# Altium footprint library 排阻.PcbLib: 13 footprints
Each footprint in its own frame and in the unit in brackets; x right, y up, seen from the top. Pads: shape width x height; smd on the part's side, far side on the other; paste and mask are expansions set on the pad; w line width, h text height; cw(c..) or ccw(c..) is an arc to the next point about the centre after c.
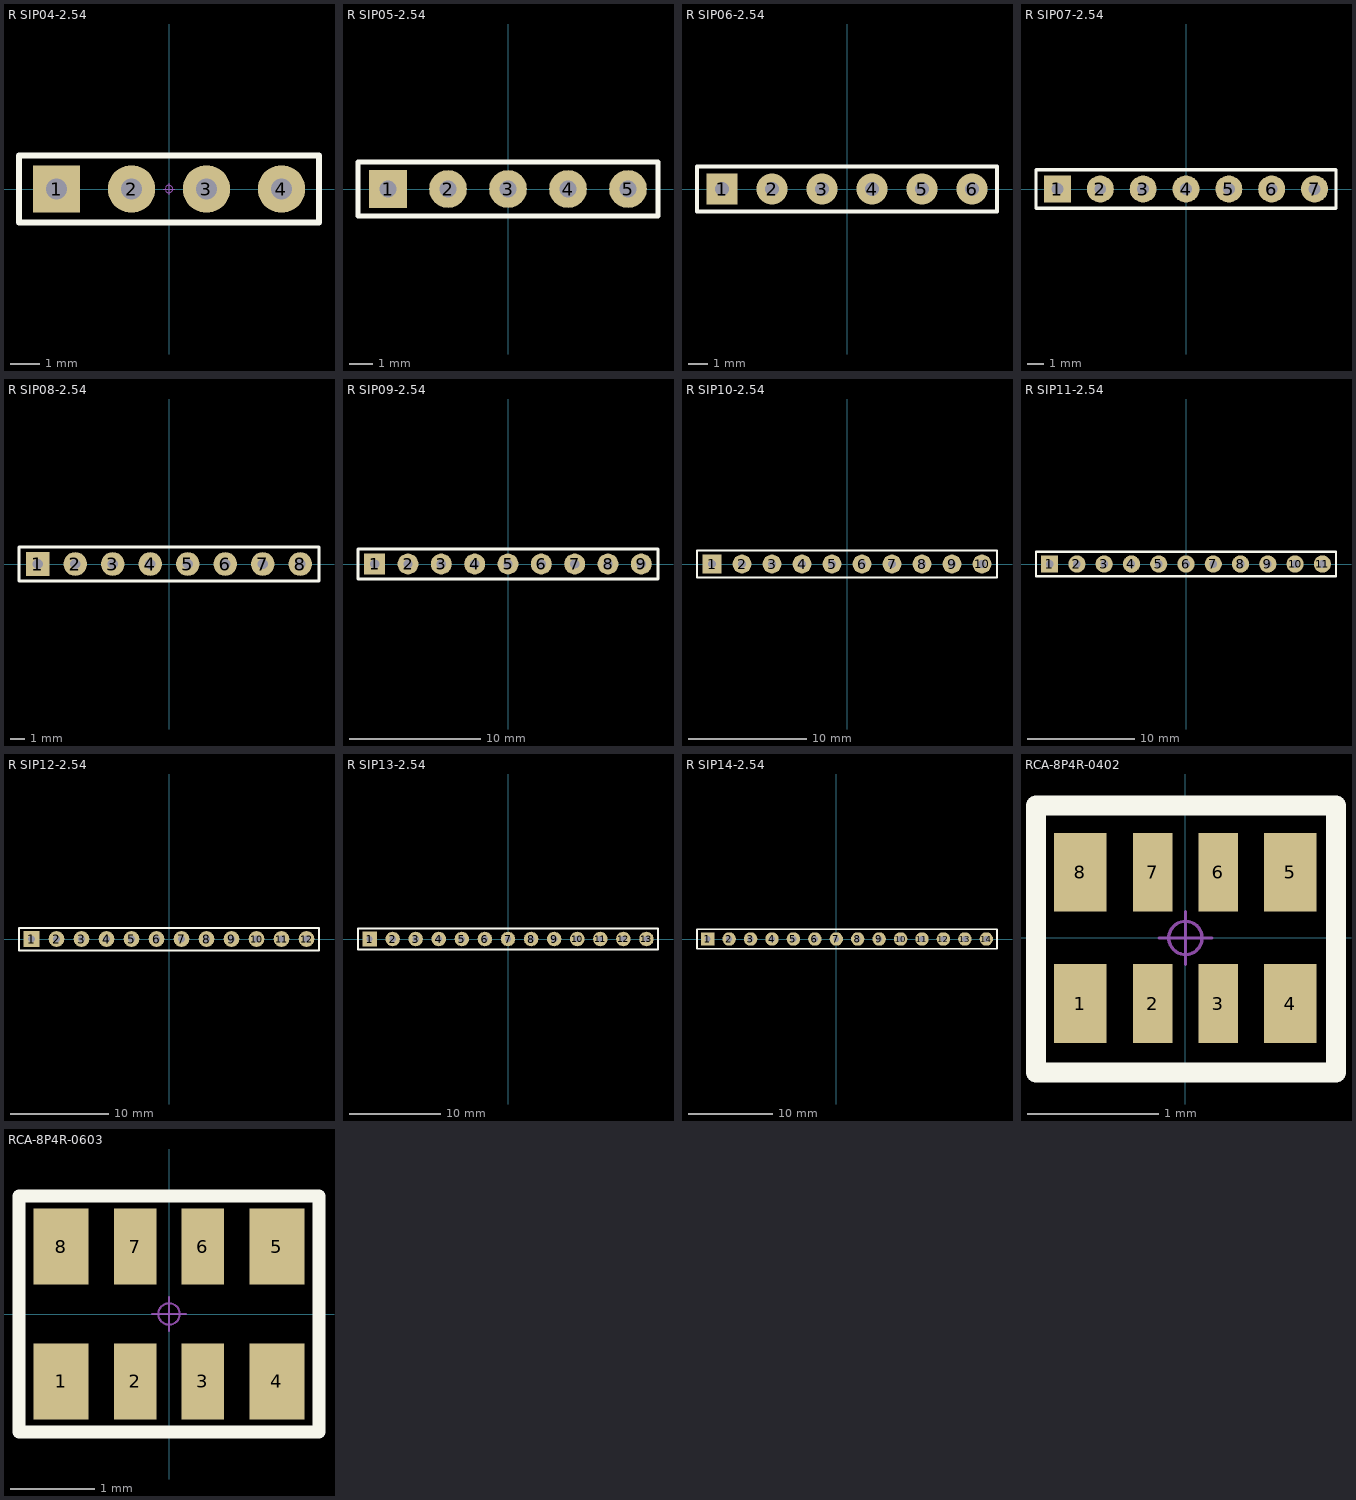
[diagram p0: the footprints below, top view; thin cyan lines are the x and y axes]

## R SIP04-2.54 [mm] "10.2mm*5mm*2.2mm(长*宽*厚)"
pads (4):
  rect 1.6x1.6 hole 0.7: 1(-3.81,0)
  round 1.6 hole 0.7: 2(-1.27,0) 3(1.27,0) 4(3.81,0)
Top Overlay:
  lines w0.203: -5.08,-1.143 5.08,-1.143 5.08,1.143 -5.08,1.143 -5.08,-1.143
Mechanical 15:
  circle w0.025: c0,0 r0.127
  lines w0.025: -0.2,0 0.2,0 ; 0,-0.2 0,0.2
3D body "Resistor Network Array SIP 4-3.stp": height 6.08, standoff -2.92, extent -5.1,-1.23 5.1,1.27

## R SIP05-2.54 [mm] "12.7mm*5mm*2.2mm(长*宽*厚)"
pads (5):
  rect 1.6x1.6 hole 0.7: 1(-5.08,0)
  round 1.6 hole 0.7: 2(-2.54,0) 3(0,0) 4(2.54,0) 5(5.08,0)
Top Overlay:
  lines w0.203: -6.35,-1.143 -6.35,1.143 6.35,1.143 6.35,-1.143 -6.35,-1.143
Mechanical 15:
  circle w0.025: c5.08,0 r0.127
  lines w0.025: 4.88,0 5.28,0 ; 5.08,-0.2 5.08,0.2
3D body "Resistor Network Array SIP 5-4.stp": height 6.08, standoff -2.92, extent -6.37,-1.103 6.37,1.397

## R SIP06-2.54 [mm] "15.2mm*5mm*2.2mm(长*宽*厚)"
pads (6):
  rect 1.6x1.6 hole 0.7: 1(-6.35,0)
  round 1.6 hole 0.7: 2(-3.81,0) 3(-1.27,0) 4(1.27,0) 5(3.81,0) 6(6.35,0)
Top Overlay:
  lines w0.203: -7.62,-1.143 -7.62,1.143 7.62,1.143 7.62,-1.143 -7.62,-1.143
Mechanical 15:
  circle w0.025: c3.81,0 r0.127
  lines w0.025: 3.61,0 4.01,0 ; 3.81,-0.2 3.81,0.2
3D body "Resistor Network Array SIP 6-5.stp": height 6.08, standoff -2.92, extent -7.64,-1.103 7.64,1.397

## R SIP07-2.54 [mm] "17.8mm*5mm*2.2mm(长*宽*厚)"
pads (7):
  rect 1.6x1.6 hole 0.7: 1(-7.62,0)
  round 1.6 hole 0.7: 2(-5.08,0) 3(-2.54,0) 4(0,0) 5(2.54,0) 6(5.08,0) 7(7.62,0)
Top Overlay:
  lines w0.203: -8.89,-1.143 -8.89,1.143 8.89,1.143 8.89,-1.143 -8.89,-1.143
Mechanical 15:
  circle w0.025: c2.54,0 r0.127
  lines w0.025: 2.34,0 2.74,0 ; 2.54,-0.2 2.54,0.2
3D body "Resistor Network Array SIP 7-6.stp": height 6.08, standoff -2.92, extent -8.91,-1.103 8.91,1.397

## R SIP08-2.54 [mm] "20.3mm*5mm*2.2mm(长*宽*厚)"
pads (8):
  rect 1.6x1.6 hole 0.7: 1(-8.89,0)
  round 1.6 hole 0.7: 2(-6.35,0) 3(-3.81,0) 4(-1.27,0) 5(1.27,0) 6(3.81,0) 7(6.35,0) 8(8.89,0)
Top Overlay:
  lines w0.203: -10.16,-1.143 -10.16,1.143 10.16,1.143 10.16,-1.143 -10.16,-1.143
Mechanical 15:
  circle w0.025: c1.27,0 r0.127
  lines w0.025: 1.07,0 1.47,0 ; 1.27,-0.2 1.27,0.2
3D body "Resistor Network Array SIP 8-7.stp": height 6.08, standoff -2.92, extent -10.18,-1.103 10.18,1.397

## R SIP09-2.54 [mm] "22.6mm*5mm*2.2mm(长*宽*厚)"
pads (9):
  rect 1.6x1.6 hole 0.7: 1(-10.16,0)
  round 1.6 hole 0.7: 2(-7.62,0) 3(-5.08,0) 4(-2.54,0) 5(0,0) 6(2.54,0) 7(5.08,0) 8(7.62,0) 9(10.16,0)
Top Overlay:
  lines w0.203: -11.43,-1.143 11.43,-1.143 11.43,1.143 -11.43,1.143 -11.43,-1.143
Mechanical 15:
  circle w0.025: c0,0 r0.127
  lines w0.025: -0.2,0 0.2,0 ; 0,-0.2 0,0.2
3D body "Resistor Network Array SIP 9-8.stp": height 6.08, standoff -2.92, extent -11.45,-1.103 11.45,1.397

## R SIP10-2.54 [mm] "25.4mm*5mm*2.2mm(长*宽*厚)"
pads (10):
  rect 1.6x1.6 hole 0.7: 1(-11.43,0)
  round 1.6 hole 0.7: 2(-8.89,0) 3(-6.35,0) 4(-3.81,0) 5(-1.27,0) 6(1.27,0) 7(3.81,0) 8(6.35,0) 9(8.89,0) 10(11.43,0)
Top Overlay:
  lines w0.203: -12.7,-1.143 12.7,-1.143 12.7,1.143 -12.7,1.143 -12.7,-1.143
Mechanical 15:
  circle w0.025: c-1.27,0 r0.127
  lines w0.025: -1.47,0 -1.07,0 ; -1.27,-0.2 -1.27,0.2
3D body "Resistor Network Array SIP 10-9.stp": height 6.08, standoff -2.92, extent -12.72,-1.103 12.72,1.397

## R SIP11-2.54 [mm] "28mm*5mm*2.2mm(长*宽*厚)"
pads (11):
  rect 1.6x1.6 hole 0.7: 1(-12.7,0)
  round 1.6 hole 0.7: 2(-10.16,0) 3(-7.62,0) 4(-5.08,0) 5(-2.54,0) 6(0,0) 7(2.54,0) 8(5.08,0) 9(7.62,0) 10(10.16,0) 11(12.7,0)
Top Overlay:
  lines w0.203: -13.97,-1.143 13.97,-1.143 13.97,1.143 -13.97,1.143 -13.97,-1.143
Mechanical 15:
  circle w0.025: c-2.54,0 r0.127
  lines w0.025: -2.74,0 -2.34,0 ; -2.54,-0.2 -2.54,0.2
3D body "Resistor Network Array SIP 11-10.stp": height 6.08, standoff -2.92, extent -13.99,-1.103 13.99,1.397

## R SIP12-2.54 [mm] "30.48mm*5mm*2.2mm(长*宽*厚)"
pads (12):
  rect 1.6x1.6 hole 0.7: 1(-13.97,0)
  round 1.6 hole 0.7: 2(-11.43,0) 3(-8.89,0) 4(-6.35,0) 5(-3.81,0) 6(-1.27,0) 7(1.27,0) 8(3.81,0) 9(6.35,0) 10(8.89,0) 11(11.43,0) 12(13.97,0)
Top Overlay:
  lines w0.203: -15.24,-1.143 15.24,-1.143 15.24,1.143 -15.24,1.143 -15.24,-1.143
Mechanical 15:
  circle w0.025: c-3.81,0 r0.127
  lines w0.025: -4.01,0 -3.61,0 ; -3.81,-0.2 -3.81,0.2
3D body "Resistor Network Array SIP 12-11.stp": height 6.08, standoff -2.92, extent -15.26,-1.103 15.26,1.397

## R SIP13-2.54 [mm] "33.02mm*5mm*2.2mm(长*宽*厚)"
pads (13):
  rect 1.6x1.6 hole 0.7: 1(-15.24,0)
  round 1.6 hole 0.7: 2(-12.7,0) 3(-10.16,0) 4(-7.62,0) 5(-5.08,0) 6(-2.54,0) 7(0,0) 8(2.54,0) 9(5.08,0) 10(7.62,0) 11(10.16,0) 12(12.7,0) 13(15.24,0)
Top Overlay:
  lines w0.203: -16.51,-1.143 16.51,-1.143 16.51,1.143 -16.51,1.143 -16.51,-1.143
Mechanical 15:
  circle w0.025: c-5.08,0 r0.127
  lines w0.025: -5.28,0 -4.88,0 ; -5.08,-0.2 -5.08,0.2
3D body "Resistor Network Array SIP 13-12.stp": height 6.08, standoff -2.92, extent -16.53,-1.103 16.53,1.397

## R SIP14-2.54 [mm] "33.02mm*5mm*2.2mm(长*宽*厚)"
pads (14):
  rect 1.6x1.6 hole 0.7: 1(-15.24,0)
  round 1.6 hole 0.7: 2(-12.7,0) 3(-10.16,0) 4(-7.62,0) 5(-5.08,0) 6(-2.54,0) 7(0,0) 8(2.54,0) 9(5.08,0) 10(7.62,0) 11(10.16,0) 12(12.7,0) 13(15.24,0) 14(17.78,0)
Top Overlay:
  lines w0.203: -16.51,-1.143 -16.51,1.143 19.05,1.143 19.05,-1.143 -16.51,-1.143
Mechanical 15:
  circle w0.025: c-5.08,0 r0.127
  lines w0.025: -5.28,0 -4.88,0 ; -5.08,-0.2 -5.08,0.2
3D body "Resistor Network Array SIP 14-13.stp": height 6.08, standoff -2.92, extent -16.53,-1.103 19.07,1.397

## RCA-8P4R-0402 [mm] "2mm*1mm*0.45mm(长*宽*厚)"
pads (8):
  rect 0.4x0.6 smd: 1(-0.8,-0.5) 4(0.8,-0.5) 5(0.8,0.5) 8(-0.8,0.5)
  rect 0.3x0.6 smd: 2(-0.25,-0.5) 3(0.25,-0.5) 6(0.25,0.5) 7(-0.25,0.5)
Top Overlay:
  lines w0.152: -1.139,-1.024 -1.139,1.008 1.147,1.008 1.147,-1.024 -1.139,-1.024
Mechanical 15:
  circle w0.025: c0,0 r0.127
  lines w0.025: -0.2,0 0.2,0 ; 0,-0.2 0,0.2
3D body "RCA-8P4R-0402.STEP": height 0.45, standoff 0, extent -1,-0.5 1,0.5

## RCA-8P4R-0603 [mm] "3.2mm*1.6mm*0.6mm(长*宽*厚)"
pads (8):
  rect 0.65x0.9 smd: 1(-1.28,-0.8) 4(1.28,-0.8) 5(1.28,0.8) 8(-1.28,0.8)
  rect 0.5x0.9 smd: 2(-0.4,-0.8) 3(0.4,-0.8) 6(0.4,0.8) 7(-0.4,0.8)
Top Overlay:
  lines w0.152: -1.778,-1.397 -1.778,1.397 1.778,1.397 1.778,-1.397 -1.778,-1.397
Mechanical 15:
  circle w0.025: c0,0 r0.127
  lines w0.025: -0.2,0 0.2,0 ; 0,-0.2 0,0.2
3D body "RCA-8P4R-0603.STEP": height 0.6, standoff 0, extent -1.6,-0.8 1.6,0.8